# Altium schematic symbol library Excavator_part.SchLib: 23 symbols
Pins are listed as number, name and electrical type; pins without a type are passive.

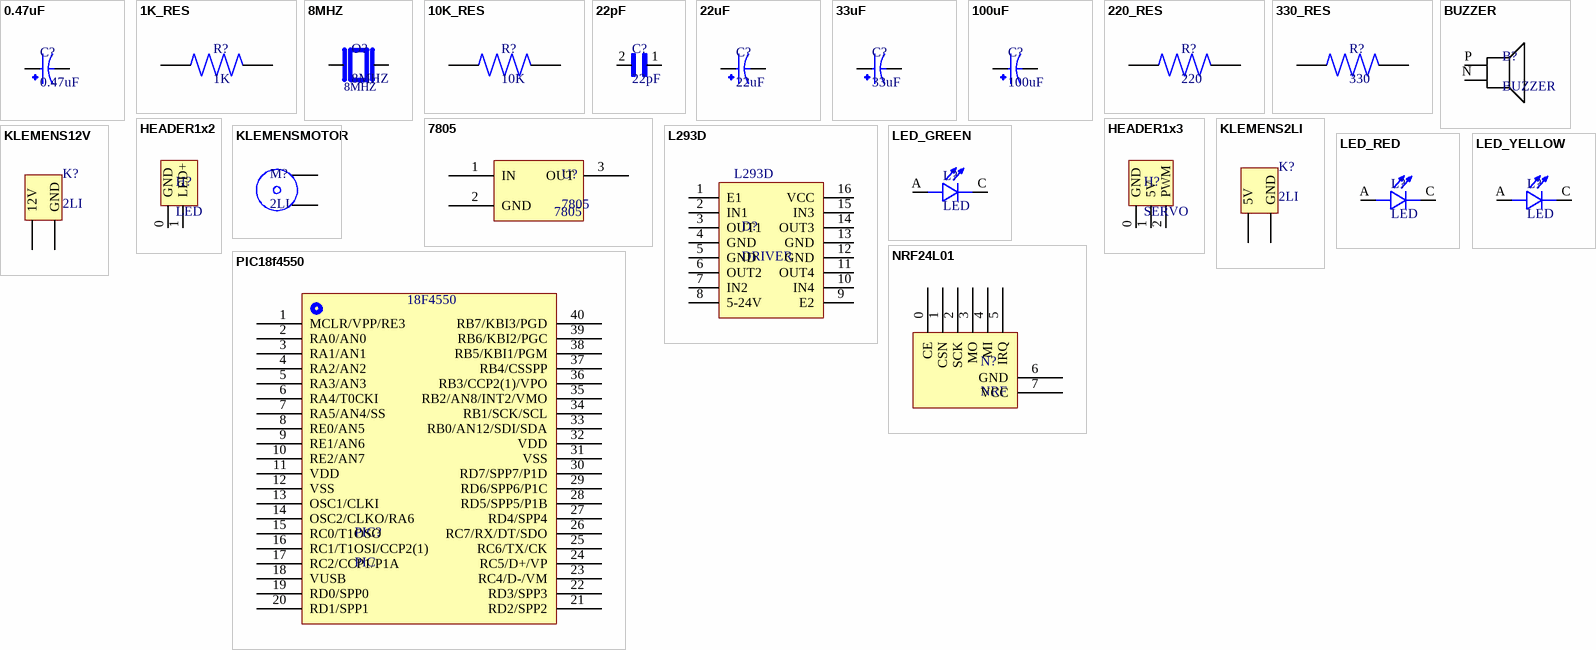
[diagram p0: symbols 0.47uF to PIC18f4550]

## 0.47uF
designator C?
footprint CAP
pins: N, P

## 1K_RES
designator R?, comment 1K
footprint 1K_RES
pins: 1, 2

## 8MHZ
designator O?
footprint 8MHZ
pins: 1, 2

## 10K_RES
designator R?, comment 10K
footprint 10K_RES
pins: 1, 2

## 22pF
designator C?
footprint 22pF
pins: 1, 2

## 22uF
designator C?
footprint CAP
pins: N, P

## 33uF
designator C?
footprint CAP
pins: N, P

## 100uF
designator C?
footprint CAP
pins: N, P

## 220_RES
designator R?, comment 220
footprint 220_RES
pins: 1, 2

## 330_RES
designator R?, comment 330
footprint 330_RES
pins: 1, 2

## 7805
designator U?
footprint 7805
pins: 1 IN, 2 GND, 3 OUT

## BUZZER
designator B?
footprint buzzer
pins: N, P

## HEADER1x2
designator H?, comment LED
footprint HEADER1x2
pins: 0 GND, 1 LED+

## HEADER1x3
designator H?, comment SERVO
footprint HEADER1x3
pins: 0 GND, 1 5V, 2 PWM

## KLEMENS2LI
designator K?, comment 2LI
footprint klemens2li
pins: N GND, P 5V

## KLEMENS12V
designator K?, comment 2LI
footprint klemens12V
pins: N GND, P 12V

## KLEMENSMOTOR
designator M?, comment 2LI
footprint klemensMOTOR
pins: N G, P I

## L293D
designator D?, comment DRIVER
footprint L293D (MotorDriver)
pins: 1 E1, 2 IN1, 3 OUT1, 4 GND, 5 GND, 6 OUT2, 7 IN2, 8 5-24V, 9 E2, 10 IN4, 11 OUT4, 12 GND, 13 GND, 14 OUT3, 15 IN3, 16 VCC

## LED_GREEN
designator L?, comment LED
footprint LED_GREEN
pins: A, C

## LED_RED
designator L?, comment LED
footprint LED_RED
pins: A, C

## LED_YELLOW
designator L?, comment LED
footprint LED_Yellow
pins: A, C

## NRF24L01
designator N?, comment NRF
footprint NRF24L01
pins: 0 CE, 1 CSN, 2 SCK, 3 MO, 4 MI, 5 IRQ, 6 GND, 7 VCC

## PIC18f4550
designator PIC?, comment PIC
footprint PIC18F4550
pins: 1 MCLR/VPP/RE3, 2 RA0/AN0, 3 RA1/AN1, 4 RA2/AN2, 5 RA3/AN3, 6 RA4/T0CKI, 7 RA5/AN4/SS, 8 RE0/AN5, 9 RE1/AN6, 10 RE2/AN7, 11 VDD, 12 VSS, 13 OSC1/CLKI, 14 OSC2/CLKO/RA6, 15 RC0/T1OSO, 16 RC1/T1OSI/CCP2(1), 17 RC2/CCP1/P1A, 18 VUSB, 19 RD0/SPP0, 20 RD1/SPP1, 21 RD2/SPP2, 22 RD3/SPP3, 23 RC4/D-/VM, 24 RC5/D+/VP, 25 RC6/TX/CK, 26 RC7/RX/DT/SDO, 27 RD4/SPP4, 28 RD5/SPP5/P1B, 29 RD6/SPP6/P1C, 30 RD7/SPP7/P1D, 31 VSS, 32 VDD, 33 RB0/AN12/SDI/SDA, 34 RB1/SCK/SCL, 35 RB2/AN8/INT2/VMO, 36 RB3/CCP2(1)/VPO, 37 RB4/CSSPP, 38 RB5/KBI1/PGM, 39 RB6/KBI2/PGC, 40 RB7/KBI3/PGD
text: 18F4550